# EAGLE library part 51296-5494 (library di_connectors)
Molex 0.5mm Pitch, Bottom contacts, 54 positions
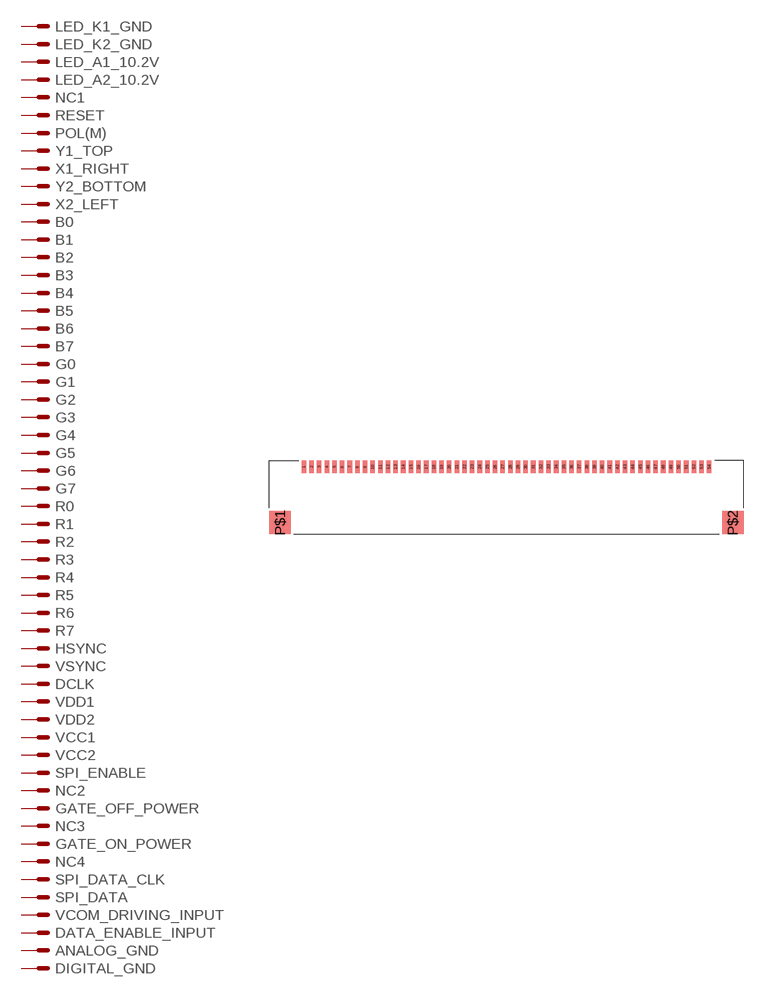
[diagram p2: symbol with the pads of 51296; footprint 51296]

Designator prefix -

## 51296-5494  [51296]
1  LED_K1_GND  pas
2  LED_K2_GND  pas
3  LED_A1_10.2V  pas
4  LED_A2_10.2V  pas
5  NC1  pas
6  RESET  pas
7  POL(M)  pas
8  Y1_TOP  pas
9  X1_RIGHT  pas
10  Y2_BOTTOM  pas
11  X2_LEFT  pas
12  B0  pas
13  B1  pas
14  B2  pas
15  B3  pas
16  B4  pas
17  B5  pas
18  B6  pas
19  B7  pas
20  G0  pas
21  G1  pas
22  G2  pas
23  G3  pas
24  G4  pas
25  G5  pas
26  G6  pas
27  G7  pas
28  R0  pas
29  R1  pas
30  R2  pas
31  R3  pas
32  R4  pas
33  R5  pas
34  R6  pas
35  R7  pas
36  HSYNC  pas
37  VSYNC  pas
38  DCLK  pas
39  VDD1  pas
40  VDD2  pas
41  VCC1  pas
42  VCC2  pas
43  SPI_ENABLE  pas
44  NC2  pas
45  GATE_OFF_POWER  pas
46  NC3  pas
47  GATE_ON_POWER  pas
48  NC4  pas
49  SPI_DATA_CLK  pas
50  SPI_DATA  pas
51  VCOM_DRIVING_INPUT  pas
52  DATA_ENABLE_INPUT  pas
53  ANALOG_GND  pas
54  DIGITAL_GND  pas

## Footprint 51296 (pad centres in mm)
smd 0.3 x 0.8: 1 -13.25,2.3; 2 -12.75,2.3; 3 -12.25,2.3; 4 -11.75,2.3; 5 -11.25,2.3; 6 -10.75,2.3; 7 -10.25,2.3; 8 -9.75,2.3; 9 -9.25,2.3; 10 -8.75,2.3; 11 -8.25,2.3; 12 -7.75,2.3; 13 -7.25,2.3; 14 -6.75,2.3; 15 -6.25,2.3; 16 -5.75,2.3; 17 -5.25,2.3; 18 -4.75,2.3; 19 -4.25,2.3; 20 -3.75,2.3; 21 -3.25,2.3; 22 -2.75,2.3; 23 -2.25,2.3; 24 -1.75,2.3; 25 -1.25,2.3; 26 -0.75,2.3; 27 -0.25,2.3; 28 0.25,2.3; 29 0.75,2.3; 30 1.25,2.3; 31 1.75,2.3; 32 2.25,2.3; 33 2.75,2.3; 34 3.25,2.3; 35 3.75,2.3; 36 4.25,2.3; 37 4.75,2.3; 38 5.25,2.3; 39 5.75,2.3; 40 6.25,2.3; 41 6.75,2.3; 42 7.25,2.3; 43 7.75,2.3; 44 8.25,2.3; 45 8.75,2.3; 46 9.25,2.3; 47 9.75,2.3; 48 10.25,2.3; 49 10.75,2.3; 50 11.25,2.3; 51 11.75,2.3; 52 12.25,2.3; 53 12.75,2.3; 54 13.25,2.3
smd 1.4 x 1.5: P$1 -14.8,-1.35; P$2 14.8,-1.35